# Altium schematic symbol library Vowstar_Transformer.SchLib: 1 symbol
Pins are listed as number, name and electrical type; pins without a type are passive.

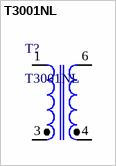
[diagram p0: symbol T3001NL]

## T3001NL
designator T?
T3/DS3/E3/STS-1 TRANSFORMERS
footprint T3001NL
pins: 1, 3, 4, 6